# Altium footprint library RELAY_SLA-12VDC-SL-C.PcbLib: 1 footprints
Each footprint in its own frame and in the unit in brackets; x right, y up, seen from the top. Pads: shape width x height; smd on the part's side, far side on the other; paste and mask are expansions set on the pad; w line width, h text height; cw(c..) or ccw(c..) is an arc to the next point about the centre after c.
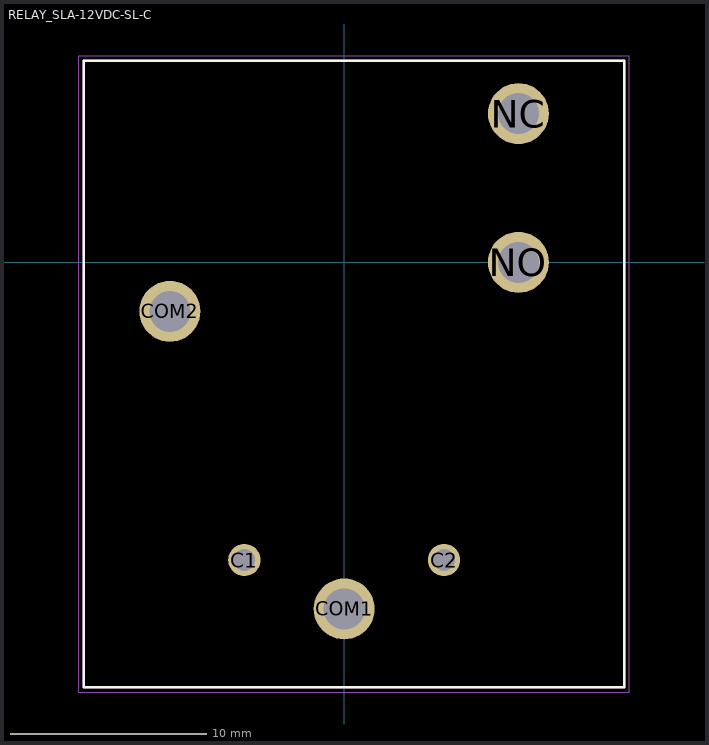
[diagram p0: the footprint, top view; thin cyan lines are the x and y axes]

## RELAY_SLA-12VDC-SL-C [mm]
height 20.4
pads (6):
  round 1.65 hole 1.1: C1(-5.1,-15.2) C2(5.1,-15.2)
  round 3.116 hole 2.1: COM1(0,-17.7) COM2(-8.9,-2.5) NC(8.9,7.6) NO(8.9,0)
Top Overlay:
  lines w0.127: -13.3,-21.7 14.3,-21.7 14.3,10.3 -13.3,10.3 -13.3,-21.7
Mechanical 13:
  lines w0.127: -13.3,-21.7 14.3,-21.7 14.3,10.3 -13.3,10.3 -13.3,-21.7
Mechanical 15:
  lines w0.05: -13.55,-21.95 14.55,-21.95 14.55,10.55 -13.55,10.55 -13.55,-21.95
3D body "step_temp.STEP": height 20.4, standoff -3.2, extent -13.3,-21.7 14.3,10.3